# EAGLE library part AT_1SH_A_06-XS (library added_parts)
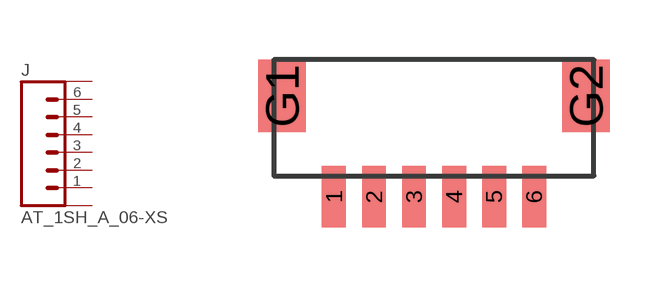
[diagram p4: symbol with the pads of AT_1SH-A-06-XS; footprint AT_1SH-A-06-XS]

Designator prefix J

## AT_1SH_A_06-XS  [AT_1SH-A-06-XS]
1  1  pas
2  2  pas
3  3  pas
4  4  pas
5  5  pas
6  6  pas
G1  P$1  pas
G2  P$2  pas

## Footprint AT_1SH-A-06-XS (pad centres in mm)
smd 0.6 x 1.55: 1 -2.5,-2; 2 -1.5,-2; 3 -0.5,-2; 4 0.5,-2; 5 1.5,-2; 6 2.5,-2
smd 1.2 x 1.8: G1 -3.8,0.525; G2 3.8,0.525